# EAGLE library part P-POT-DOUBLE-*- (library elpp-tht-v1.4)
Potentiometer, double Tandem carbon potentiometer, 16 mm
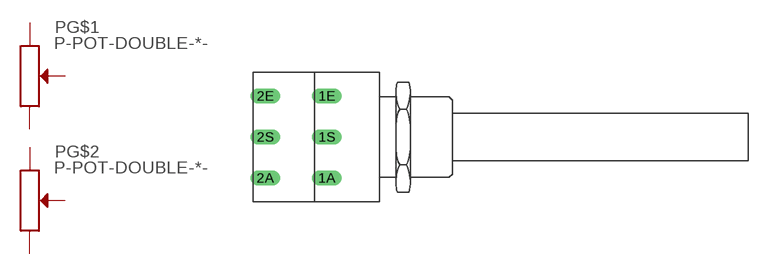
[diagram p6: symbol with the pads of ELPP-POT-CP16-DOUBLE; footprint ELPP-POT-CP16-DOUBLE]

Designator prefix P; gates G$1=POTENTIOMETER G$2=POTENTIOMETER

## P-POT-DOUBLE-10K-LOG- (FARNELL: 1227603; RS: unknown)  [ELPP-POT-CP16-DOUBLE]
1A  G$1:1A  pas
1E  G$1:1E  pas
1S  G$1:1S  pas
2A  G$2:1A  pas
2E  G$2:1E  pas
2S  G$2:1S  pas

## Footprint ELPP-POT-CP16-DOUBLE (pad centres in mm)
Potentiometer tandem carbon potentiometer, 16 mm
drill 1.2 long: 1A -0.15,-5; 1E -0.15,5; 1S -0.15,0; 2A -7.65,-5; 2E -7.65,5; 2S -7.65,0